# EAGLE library part 2_X_8_CON (library 11_pin_connecterp)
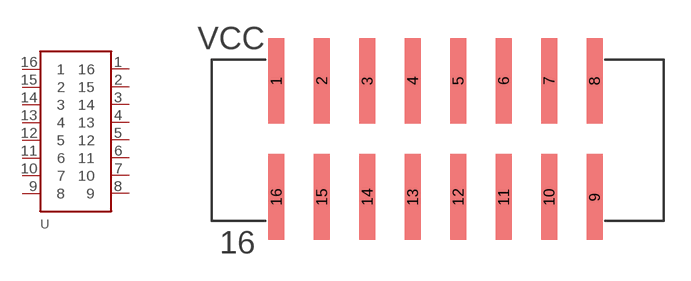
[diagram p5: symbol with the pads of 2_X_8_PIN; footprint 2_X_8_PIN]

Designator prefix -

## 2_X_8_CON  [2_X_8_PIN]
1  16
2  15
3  14
4  13
5  12
6  11
7  10
8  9
9  8
10  7
11  6
12  5
13  4
14  3
15  2
16  1

## Footprint 2_X_8_PIN (pad centres in mm)
smd 0.89 x 4.8: 1 -8.89,3.325; 2 -6.35,3.325; 3 -3.81,3.325; 4 -1.27,3.325; 5 1.27,3.325; 6 3.81,3.325; 7 6.35,3.325; 8 8.89,3.325; 9 8.89,-3.175; 10 6.35,-3.175; 11 3.81,-3.175; 12 1.27,-3.175; 13 -1.27,-3.175; 14 -3.81,-3.175; 15 -6.35,-3.175; 16 -8.89,-3.175